# Altium footprint library BATTERY2.PCBLIB: 1 footprints
Each footprint in its own frame and in the unit in brackets; x right, y up, seen from the top. Pads: shape width x height; smd on the part's side, far side on the other; paste and mask are expansions set on the pad; w line width, h text height; cw(c..) or ccw(c..) is an arc to the next point about the centre after c.
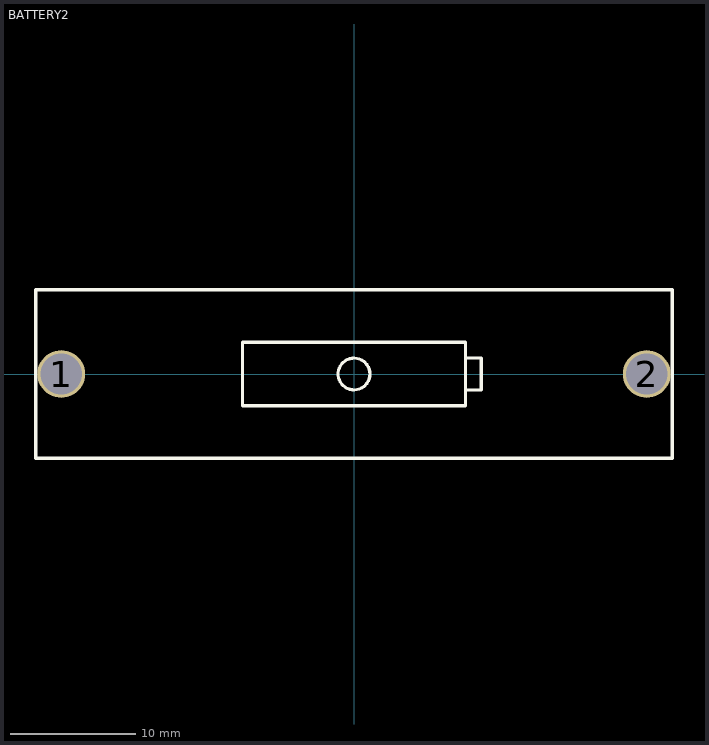
[diagram p0: the footprint, top view; thin cyan lines are the x and y axes]

## BATTERY2 [mil] "AAA"
height 480
pads (2):
  round 150 hole 130: 1(-920,0) 2(920,0)
Top Overlay:
  circle w10: c0,0 r50
  lines w10: 350,-50 400,-50 400,50 350,50 ; -1000,-265 -1000,265 1000,265 1000,-265 -1000,-265 ; -350,-100 350,-100 350,100 -350,100 -350,-100